# Altium integrated library Infineon RF & Wireless Control.IntLib: 329 symbols (part 5 of 11)
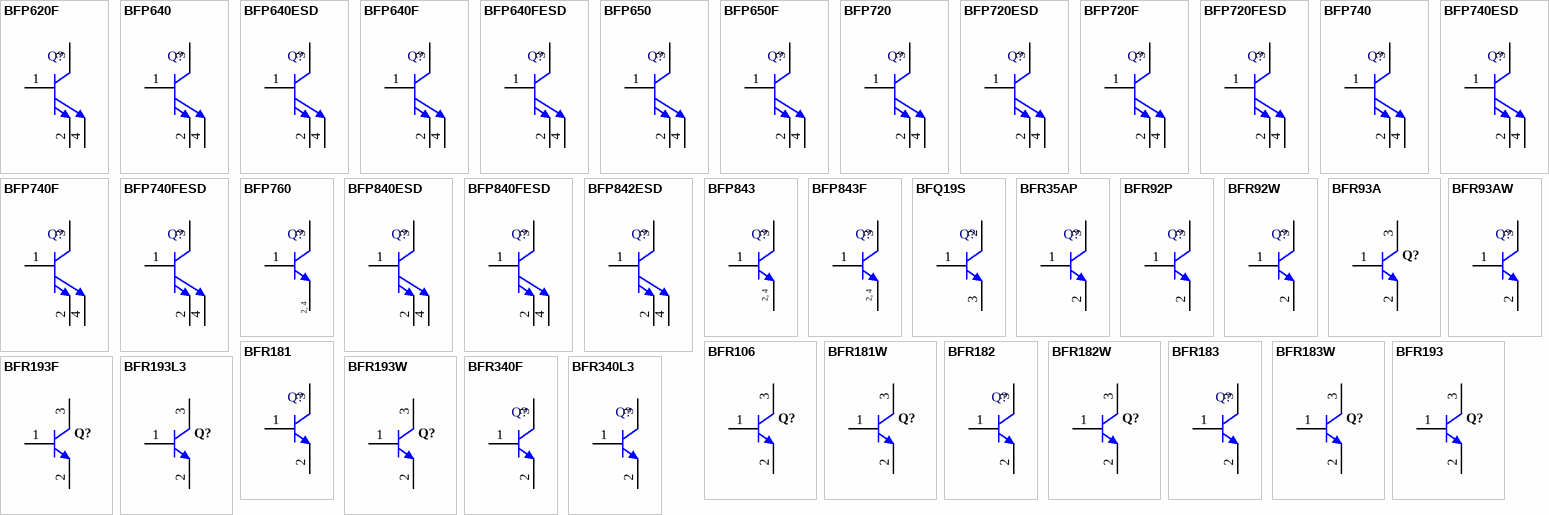
[diagram p13: symbols BFP620F to BFR340L3]

## BFP640F
designator Q?
NPN Silicon Germanium RF Transistor, 4 V VCEO, 50 mA IC, 23 dB Gmax, TSFP-4-1, Green; Manufacturer: Infineon; PartNumber: BFP640F; Gmax (typ): 23 dB; Green: yes; Group: Ultra low noise SiGe; IC (max): 50 mA; NFmin (typ): 0.65 dB; Ptot (max): 200mW; VCEO (max): 4 V; DatasheetVersion: ########; PackageReference: TSFP-4-1; PackageDescription: 4-Pin Thin Small Flat Package, 0.8 x 1.4 mm Body, 0.5 mm Pitch; Supplier 1: Mouser; Supplier Part Number 1: N/A; Halogen-free: yes; Mounting Technology: Surface Mount; ComponentLink1Description: Manufacturer URL; ComponentLink1URL: http://www.infineon.com/; ComponentLink2Description: Datasheet; ComponentLink2URL: http://www.infineon.com/dgdl/bfp640f.pdf?folderId=db3a30431400ef68011425b291f205c5&fileId=db3a30431400ef6801142744b3d90716&location=en.Products.RF.RF_Transistors_.Ultra_Low_Noise_SiGe_C_Transistors_for_use_up_to_12_GHz.DATASHEET.bfp640f.pdf; ComponentLink3Description: Package Specification; ComponentLink3URL: http://www.infineon.com/dgdl/TSFP-4-1%2C-2-Package_Overview.pdf?folderId=db3a30431936bc4b011953b7d203683d&fileId=db3a30431936bc4b011953c249663734
footprint INF-TSFP-4-1_V (SOP-Flat, Body 0.8x1.4 mm, Pitch 1 mm)
pins: 1 B, 2 E, 3 C, 4 E

## BFP640FESD
designator Q?
Robust High Performance Low Noise Bipolar RF Transistor, 4.1 V VCEO, 50 mA IC, 27 dB Gmax, TSFP-4-1, Green; Manufacturer: Infineon; PartNumber: BFP640FESD; Gmax (typ): 27 dB; Green: yes; Group: Robust ultra low noise SiGe; IC (max): 50 mA; NFmin (typ): 0.65 dB; Ptot (max): 200 mW; VCEO (max): 4.1 V; DatasheetVersion: Rev. 1.1; PackageReference: TSFP-4-1; PackageDescription: 4-Pin Thin Small Flat Package, 0.8 x 1.4 mm Body, 0.5 mm Pitch; Halogen-free: yes; Mounting Technology: Surface Mount; ComponentLink1Description: Manufacturer URL; ComponentLink1URL: http://www.infineon.com/; ComponentLink2Description: Datasheet; ComponentLink2URL: http://www.infineon.com/dgdl/bfp640fesd.pdf?folderId=db3a30431400ef68011425b291f205c5&fileId=db3a30432d9b3066012dbc8674194152&location=en.Products.RF.RF_Transistors_.Ultra_Low_Noise_SiGe_C_Transistors_for_use_up_to_12_GHz.DATASHEET.bfp640fesd.pdf; ComponentLink3Description: Package Specification; ComponentLink3URL: http://www.infineon.com/dgdl/TSFP-4-1%2C-2-Package_Overview.pdf?folderId=db3a30431936bc4b011953b7d203683d&fileId=db3a30431936bc4b011953c249663734
footprint INF-TSFP-4-1_V (SOP-Flat, Body 0.8x1.4 mm, Pitch 1 mm)
pins: 1 B, 2 E, 3 C, 4 E

## BFP650
designator Q?
High Linearity Low Noise SiGe:C NPN RF Transistor, 4 V VCEO, 150 mA IC, 21.5 dB Gmax, SOT343, Green; Manufacturer: Infineon; PartNumber: BFP650; Gmax (typ): 21.5 dB; Green: yes; Group: SiGe; IC (max): 150 mA; NFmin (typ): 0.8 dB; Ptot (max): 500.0 mW; VCEO (max): 4 V; DatasheetVersion: Rev. 1.0; PackageReference: SOT343; PackageDescription: 4-Pin Small Outline Transistor Package, 1.25 x 2 mm Body; Supplier 1: Mouser; Supplier Part Number 1: N/A; Supplier 2: Digi-Key; Supplier Part Number 2: BFP650-ND; Halogen-free: yes; Mounting Technology: Surface Mount; ComponentLink1Description: Manufacturer URL; ComponentLink1URL: http://www.infineon.com/; ComponentLink2Description: Datasheet; ComponentLink2URL: http://www.infineon.com/dgdl/bfp650.pdf?folderId=db3a30431400ef68011425b291f205c5&fileId=db3a30431400ef6801142743b0330715&location=en.Products.RF.RF_Transistors_.High_Linearity_Si-_and_SiGe_C-Transistors_for_use_up_to_6_GHz.DATASHEET.bfp650.pdf; ComponentLink3Description: Package Specification; ComponentLink3URL: http://www.infineon.com/dgdl/SOT343-Package_Overview.pdf?folderId=db3a30431936bc4b0119535155343cba&fileId=db3a30431936bc4b0119535a9f393cd3
footprint INF-SOT343_V (SOT343, 4-Leads, Body 2x1.25 mm)
pins: 1 B, 2 E, 3 C, 4 E

## BFP650F
designator Q?
NPN Silicon Germanium RF Transistor, 4 V VCEO, 150 mA IC, 21.5 dB Gmax, TSFP-4-1, Green; Manufacturer: Infineon; PartNumber: BFP650F; Gmax (typ): 21.5 dB; Green: yes; Group: SiGe; IC (max): 150 mA; NFmin (typ): 0.8 dB; Ptot (max): 500.0 mW; VCEO (max): 4 V; DatasheetVersion: Aug-2007; PackageReference: TSFP-4-1; PackageDescription: 4-Pin Thin Small Flat Package, 0.8 x 1.4 mm Body, 0.5 mm Pitch; Supplier 1: Mouser; Supplier Part Number 1: N/A; Halogen-free: yes; Mounting Technology: Surface Mount; ComponentLink1Description: Manufacturer URL; ComponentLink1URL: http://www.infineon.com/; ComponentLink2Description: Datasheet; ComponentLink2URL: http://www.infineon.com/dgdl/bfp650f.pdf?folderId=db3a30431400ef68011425b291f205c5&fileId=db3a30431441fb5d01149297e271101c&location=en.Products.RF.RF_Transistors_.High_Linearity_Si-_and_SiGe_C-Transistors_for_use_up_to_6_GHz.DATASHEET.bfp650f.pdf; ComponentLink3Description: Package Specification; ComponentLink3URL: http://www.infineon.com/dgdl/TSFP-4-1%2C-2-Package_Overview.pdf?folderId=db3a30431936bc4b011953b7d203683d&fileId=db3a30431936bc4b011953c249663734
footprint INF-TSFP-4-1_V (SOP-Flat, Body 0.8x1.4 mm, Pitch 1 mm)
pins: 1 B, 2 E, 3 C, 4 E

## BFP720
designator Q?
SiGe:C Heterojunction Wideband RF Bipolar Transistor, 4 V VCEO, 20 mA IC, 26 dB Gmax, SOT343, Green; Manufacturer: Infineon; PartNumber: BFP720; Gmax (typ): 26 dB; Green: yes; Group: Ultra low noise SiGe; IC (max): 20 mA; NFmin (typ): 0.5 dB; Ptot (max): 80mW; VCEO (max): 4 V; DatasheetVersion: Rev. 1.0; PackageReference: SOT343; PackageDescription: 4-Pin Small Outline Transistor Package, 1.25 x 2 mm Body; Halogen-free: yes; Mounting Technology: Surface Mount; ComponentLink1Description: Manufacturer URL; ComponentLink1URL: http://www.infineon.com/; ComponentLink2Description: Datasheet; ComponentLink2URL: http://www.infineon.com/dgdl/bfp720.pdf?folderId=db3a30431400ef68011425b291f205c5&fileId=db3a30431ddc9372011e2620465946bc&location=en.Products.RF.RF_Transistors_.Ultra_Low_Noise_SiGe_C_Transistors_for_use_up_to_12_GHz.DATASHEET.bfp720.pdf; ComponentLink3Description: Package Specification; ComponentLink3URL: http://www.infineon.com/dgdl/SOT343-Package_Overview.pdf?folderId=db3a30431936bc4b0119535155343cba&fileId=db3a30431936bc4b0119535a9f393cd3
footprint INF-SOT343_V (SOT343, 4-Leads, Body 2x1.25 mm)
pins: 1 B, 2 E, 3 C, 4 E

## BFP720ESD
designator Q?
Robust High Performance Low Noise Bipolar RF Transistor, 4.2 V VCEO, 25 mA IC, 27 dB Gmax, SOT343, Green; Manufacturer: Infineon; PartNumber: BFP720ESD; Gmax (typ): 27 dB; Green: yes; Group: Robust ultra low noise SiGe; IC (max): 25 mA; NFmin (typ): 0.6 dB; Ptot (max): 100 mW; VCEO (max): 4.2 V; DatasheetVersion: Rev. 1.0; PackageReference: SOT343; PackageDescription: 4-Pin Small Outline Transistor Package, 1.25 x 2 mm Body; Halogen-free: yes; Mounting Technology: Surface Mount; ComponentLink1Description: Manufacturer URL; ComponentLink1URL: http://www.infineon.com/; ComponentLink2Description: Datasheet; ComponentLink2URL: http://www.infineon.com/dgdl/bfp720esd.pdf?folderId=db3a30431f848401011fcbf2ab4c04c4&fileId=db3a30432968c552012991dcedf054a7&location=en.Products.RF.RF_Transistors_.Ultra_Low_Noise_SiGe_C_Transistors_for_use_up_to_12_GHz.DATASHEET.bfp720esd.pdf; ComponentLink3Description: Package Specification; ComponentLink3URL: http://www.infineon.com/dgdl/SOT343-Package_Overview.pdf?folderId=db3a30431936bc4b0119535155343cba&fileId=db3a30431936bc4b0119535a9f393cd3
footprint INF-SOT343_V (SOT343, 4-Leads, Body 2x1.25 mm)
pins: 1 B, 2 E, 3 C, 4 E

## BFP720F
designator Q?
SiGe:C Heterojunction Wideband RF Bipolar Transistor, 4 V VCEO, 20 mA IC, 26 dB Gmax, TSFP-4-1, Green; Manufacturer: Infineon; PartNumber: BFP720F; Gmax (typ): 26 dB; Green: yes; Group: Ultra low noise SiGe; IC (max): 20 mA; NFmin (typ): 0.5 dB; Ptot (max): 80mW; VCEO (max): 4 V; DatasheetVersion: Rev. 1.0; PackageReference: TSFP-4-1; PackageDescription: 4-Pin Thin Small Flat Package, 0.8 x 1.4 mm Body, 0.5 mm Pitch; Halogen-free: yes; Mounting Technology: Surface Mount; ComponentLink1Description: Manufacturer URL; ComponentLink1URL: http://www.infineon.com/; ComponentLink2Description: Datasheet; ComponentLink2URL: http://www.infineon.com/dgdl/bfp720f.pdf?folderId=db3a30431400ef68011425b291f205c5&fileId=db3a30431ddc9372011e2673bdbf4727&location=en.Products.RF.RF_Transistors_.Ultra_Low_Noise_SiGe_C_Transistors_for_use_up_to_12_GHz.DATASHEET.bfp720f.pdf; ComponentLink3Description: Package Specification; ComponentLink3URL: http://www.infineon.com/dgdl/TSFP-4-1%2C-2-Package_Overview.pdf?folderId=db3a30431936bc4b011953b7d203683d&fileId=db3a30431936bc4b011953c249663734
footprint INF-TSFP-4-1_V (SOP-Flat, Body 0.8x1.4 mm, Pitch 1 mm)
pins: 1 B, 2 E, 3 C, 4 E

## BFP720FESD
designator Q?
Robust High Performance Low Noise Bipolar RF Transistor, 4.2 V VCEO, 25 mA IC, 27 dB Gmax, TSFP-4-1, Green; Manufacturer: Infineon; PartNumber: BFP720FESD; Gmax (typ): 27 dB; Green: yes; Group: Robust ultra low noise SiGe; IC (max): 25 mA; NFmin (typ): 0.6 dB; Ptot (max): 100 mW; VCEO (max): 4.2 V; DatasheetVersion: Rev. 1.1; PackageReference: TSFP-4-1; PackageDescription: 4-Pin Thin Small Flat Package, 0.8 x 1.4 mm Body, 0.5 mm Pitch; Halogen-free: yes; Mounting Technology: Surface Mount; ComponentLink1Description: Manufacturer URL; ComponentLink1URL: http://www.infineon.com/; ComponentLink2Description: Datasheet; ComponentLink2URL: http://www.infineon.com/dgdl/bfp720fesd.pdf?folderId=db3a30431400ef68011425b291f205c5&fileId=db3a304329a0f6ee0129d0399cc505a0&location=en.Products.RF.RF_Transistors_.Ultra_Low_Noise_SiGe_C_Transistors_for_use_up_to_12_GHz.DATASHEET.bfp720fesd.pdf; ComponentLink3Description: Package Specification; ComponentLink3URL: http://www.infineon.com/dgdl/TSFP-4-1%2C-2-Package_Overview.pdf?folderId=db3a30431936bc4b011953b7d203683d&fileId=db3a30431936bc4b011953c249663734
footprint INF-TSFP-4-1_V (SOP-Flat, Body 0.8x1.4 mm, Pitch 1 mm)
pins: 1 B, 2 E, 3 C, 4 E

## BFP740
designator Q?
NPN Silicon Germanium RF Transistor, 4 V VCEO, 45 mA IC, 27 dB Gmax, SOT343, Green; Manufacturer: Infineon; PartNumber: BFP740; Gmax (typ): 27 dB; Green: yes; Group: Ultra low noise SiGe; IC (max): 45 mA; NFmin (typ): 0.5 dB; Ptot (max): 160mW; VCEO (max): 4 V; DatasheetVersion: Dec-2009; PackageReference: SOT343; PackageDescription: 4-Pin Small Outline Transistor Package, 1.25 x 2 mm Body; Halogen-free: yes; Mounting Technology: Surface Mount; ComponentLink1Description: Manufacturer URL; ComponentLink1URL: http://www.infineon.com/; ComponentLink2Description: Datasheet; ComponentLink2URL: http://www.infineon.com/dgdl/bfp740.pdf?folderId=db3a30431400ef68011425b291f205c5&fileId=db3a30431400ef6801142740c849070c&location=en.Products.RF.RF_Transistors_.Ultra_Low_Noise_SiGe_C_Transistors_for_use_up_to_12_GHz.DATASHEET.bfp740.pdf; ComponentLink3Description: Package Specification; ComponentLink3URL: http://www.infineon.com/dgdl/SOT343-Package_Overview.pdf?folderId=db3a30431936bc4b0119535155343cba&fileId=db3a30431936bc4b0119535a9f393cd3
footprint INF-SOT343_V (SOT343, 4-Leads, Body 2x1.25 mm)
pins: 1 B, 2 E, 3 C, 4 E

## BFP740ESD
designator Q?
Robust High Performance Low Noise Bipolar RF Transistor, 4.2 V VCEO, 35 mA IC, 27 dB Gmax, SOT343, Green; Manufacturer: Infineon; PartNumber: BFP740ESD; Gmax (typ): 27 dB; Green: yes; Group: Robust ultra low noise SiGe; IC (max): 35 mA; NFmin (typ): 0.6 dB; Ptot (max): 160.0 mW; VCEO (max): 4.2 V; DatasheetVersion: Rev. 1.0; PackageReference: SOT343; PackageDescription: 4-Pin Small Outline Transistor Package, 1.25 x 2 mm Body; Halogen-free: yes; Mounting Technology: Surface Mount; ComponentLink1Description: Manufacturer URL; ComponentLink1URL: http://www.infineon.com/; ComponentLink2Description: Datasheet; ComponentLink2URL: http://www.infineon.com/dgdl/bfp740esd.pdf?folderId=db3a30431f848401011fcbf2ab4c04c4&fileId=db3a30432968c552012991dbc14c54a2&location=en.Products.RF.RF_Transistors_.Ultra_Low_Noise_SiGe_C_Transistors_for_use_up_to_12_GHz.DATASHEET.bfp740esd.pdf; ComponentLink3Description: Package Specification; ComponentLink3URL: http://www.infineon.com/dgdl/SOT343-Package_Overview.pdf?folderId=db3a30431936bc4b0119535155343cba&fileId=db3a30431936bc4b0119535a9f393cd3
footprint INF-SOT343_V (SOT343, 4-Leads, Body 2x1.25 mm)
pins: 1 B, 2 E, 3 C, 4 E

## BFP740F
designator Q?
NPN Silicon Germanium RF Transistor, 4 V VCEO, 45 mA IC, 27.5 dB Gmax, TSFP-4-1, Green; Manufacturer: Infineon; PartNumber: BFP740F; Gmax (typ): 27.5 dB; Green: yes; Group: Ultra low noise SiGe; IC (max): 45 mA; NFmin (typ): 0.5 dB; Ptot (max): 160mW; VCEO (max): 4 V; DatasheetVersion: Apr-2007; PackageReference: TSFP-4-1; PackageDescription: 4-Pin Thin Small Flat Package, 0.8 x 1.4 mm Body, 0.5 mm Pitch; Supplier 1: Mouser; Supplier Part Number 1: N/A; Halogen-free: yes; Mounting Technology: Surface Mount; ComponentLink1Description: Manufacturer URL; ComponentLink1URL: http://www.infineon.com/; ComponentLink2Description: Datasheet; ComponentLink2URL: http://www.infineon.com/dgdl/bfp740f.pdf?folderId=db3a30431400ef68011425b291f205c5&fileId=db3a30431400ef680114273fad60070b&location=en.Products.RF.RF_Transistors_.Ultra_Low_Noise_SiGe_C_Transistors_for_use_up_to_12_GHz.DATASHEET.bfp740f.pdf; ComponentLink3Description: Package Specification; ComponentLink3URL: http://www.infineon.com/dgdl/TSFP-4-1%2C-2-Package_Overview.pdf?folderId=db3a30431936bc4b011953b7d203683d&fileId=db3a30431936bc4b011953c249663734
footprint INF-TSFP-4-1_V (SOP-Flat, Body 0.8x1.4 mm, Pitch 1 mm)
pins: 1 B, 2 E, 3 C, 4 E

## BFP740FESD
designator Q?
Robust High Performance Low Noise Bipolar RF Transistor, 4.2 V VCEO, 35 mA IC, 27 dB Gmax, TSFP-4-1, Green; Manufacturer: Infineon; PartNumber: BFP740FESD; Gmax (typ): 27 dB; Green: yes; Group: Robust ultra low noise SiGe; IC (max): 35 mA; NFmin (typ): 0.6 dB; Ptot (max): 160.0 mW; VCEO (max): 4.2 V; DatasheetVersion: Rev. 1.1; PackageReference: TSFP-4-1; PackageDescription: 4-Pin Thin Small Flat Package, 0.8 x 1.4 mm Body, 0.5 mm Pitch; Halogen-free: yes; Mounting Technology: Surface Mount; ComponentLink1Description: Manufacturer URL; ComponentLink1URL: http://www.infineon.com/; ComponentLink2Description: Datasheet; ComponentLink2URL: http://www.infineon.com/dgdl/bfp740fesd.pdf?folderId=db3a30431400ef68011425b1354605c1&fileId=db3a30432d9b3066012dbc7089e14144&location=en.Products.RF.RF_Transistors_.Ultra_Low_Noise_SiGe_C_Transistors_for_use_up_to_12_GHz.DATASHEET.bfp740fesd.pdf; ComponentLink3Description: Package Specification; ComponentLink3URL: http://www.infineon.com/dgdl/TSFP-4-1%2C-2-Package_Overview.pdf?folderId=db3a30431936bc4b011953b7d203683d&fileId=db3a30431936bc4b011953c249663734
footprint INF-TSFP-4-1_V (SOP-Flat, Body 0.8x1.4 mm, Pitch 1 mm)
pins: 1 B, 2 E, 3 C, 4 E

## BFP760
designator Q?
Low Noise Silicon Germanium Bipolar RF Transistor, 4 V, 70 mA IC, SOT343 (SC-82), Reel, Green; Manufacturer: Infineon; PartNumber: BFP760; fT (typ): 45 GHz; Gmax (typ): 25 dB; Green: TRUE; IC(max): 70 mA; NFmin (typ): 0.5 dB; OIP3: 31.5 dBm; OP1dB: 14.5 dBm; Ptot (max): 240 mW; VCEO (max): 4 V; DatasheetVersion: Rev. 1.0; PackageVersion: Apr-08; PackageReference: SOT343 (SC-82); PackageDescription: 4-Pin Small Outline Transistor Package, 2 x 1.25 mm Body, 1.3 mm Pitch; Halogen-free: TRUE; Packing: Reel; Mounting Technology: Surface Mount; ComponentLink1Description: Manufacturer URL; ComponentLink1URL: http://www.infineon.com/; ComponentLink2Description: Datasheet; ComponentLink2URL: http://www.infineon.com/dgdl/Infineon+SiGe+LNA+BFP760+Rev_1.pdf?folderId=db3a30431f848401011fcbf2ab4c04c4&fileId=db3a30433c1a8752013c3905d2ef4a3a; ComponentLink3Description: Package Specification; ComponentLink3URL: http://www.infineon.com/dgdl/SOT343-Package_Overview.pdf?folderId=db3a30431936bc4b0119535155343cba&fileId=db3a30431936bc4b0119535a9f393cd3
footprint INF-SOT343 (SC-82)_N (SOT343, 4-Leads, Body 2x1.25mm, Pitch 1.3mm, IPC Medium Density)
footprint INF-SOT343 (SC-82)_L (SOT343, 4-Leads, Body 2x1.25mm, Pitch 1.3mm, IPC High Density)
footprint INF-SOT343 (SC-82)_M (SOT343, 4-Leads, Body 2x1.25mm, Pitch 1.3mm, IPC Low Density)
pins: 1 B, 2 E, 3 C, 4 E
text: 2, 4

## BFP840ESD
designator Q?
Robust Low Noise Silicon Germanium Bipolar RF Transistor, 2.25 V VCEO, 35 mA IC, 33.5 dB Gmax, SOT343, Green; Manufacturer: Infineon; PartNumber: BFP840ESD; Gmax (typ): 33.5 dB; Green: yes; Group: Robust ultra low noise SiGe; IC (max): 35 mA; NFmin (typ): 0.6 dB; Ptot (max): 75.0 mW; VCEO (max): 2.25 V; DatasheetVersion: Rev. 1.1; PackageReference: SOT343; PackageDescription: 4-Pin Small Outline Transistor Package, 1.25 x 2 mm Body; Halogen-free: yes; Mounting Technology: Surface Mount; ComponentLink1Description: Manufacturer URL; ComponentLink1URL: http://www.infineon.com/; ComponentLink2Description: Datasheet; ComponentLink2URL: http://www.infineon.com/dgdl/Infineon_Robust_WiFi_SiGe_LNA_BFP840ESD_Rev1_1.pdf?folderId=db3a30431f848401011fcbf2ab4c04c4&fileId=db3a304336ca04c90136e88a4d5f35b7&location=en.Products.RF.RF_Transistors_.Ultra_Low_Noise_SiGe_C_Transistors_for_use_up_to_12_GHz.DATASHEET.Infineon_Robust_WiFi_SiGe_LNA_BFP840ESD_Rev1_1.pdf; ComponentLink3Description: Package Specification; ComponentLink3URL: http://www.infineon.com/dgdl/SOT343-Package_Overview.pdf?folderId=db3a30431936bc4b0119535155343cba&fileId=db3a30431936bc4b0119535a9f393cd3
footprint INF-SOT343_V (SOT343, 4-Leads, Body 2x1.25 mm)
pins: 1 B, 2 E, 3 C, 4 E

## BFP840FESD
designator Q?
Robust Low Noise Silicon Germanium Bipolar RF Transistor, 2.25 V VCEO, 35 mA IC, 35 dB Gmax, TSFP-4-1, Green; Manufacturer: Infineon; PartNumber: BFP840FESD; Gmax (typ): 35 dB; Green: yes; Group: Robust ultra low noise SiGe; IC (max): 35 mA; NFmin (typ): 0.55 dB; Ptot (max): 75mW; VCEO (max): 2.25 V; DatasheetVersion: Rev. 1.1; PackageReference: TSFP-4-1; PackageDescription: 4-Pin Thin Small Flat Package, 0.8 x 1.4 mm Body, 0.5 mm Pitch; Halogen-free: yes; Mounting Technology: Surface Mount; ComponentLink1Description: Manufacturer URL; ComponentLink1URL: http://www.infineon.com/; ComponentLink2Description: Datasheet; ComponentLink2URL: http://www.infineon.com/dgdl/Infineon_Robust_WiFi_SiGe_LNA_BFP840FESD_Rev1_1.pdf?folderId=db3a30431f848401011fcbf2ab4c04c4&fileId=db3a304336ca04c90136e88f755435bf&location=en.Products.RF.RF_Transistors_.Ultra_Low_Noise_SiGe_C_Transistors_for_use_up_to_12_GHz.DATASHEET.Infineon_Robust_WiFi_SiGe_LNA_BFP840FESD_Rev1_1.pdf; ComponentLink3Description: Package Specification; ComponentLink3URL: http://www.infineon.com/dgdl/TSFP-4-1%2C-2-Package_Overview.pdf?folderId=db3a30431936bc4b011953b7d203683d&fileId=db3a30431936bc4b011953c249663734
footprint INF-TSFP-4-1_V (SOP-Flat, Body 0.8x1.4 mm, Pitch 1 mm)
pins: 1 B, 2 E, 3 C, 4 E

## BFP842ESD
designator Q?
Robust Low Noise Silicon Germanium Bipolar RF Transistor, 3.25 V VCEO, 40 mA IC, 33 dB Gmax, SOT343, Green; Manufacturer: Infineon; PartNumber: BFP842ESD; Gmax (typ): 33 dB; Green: yes; Group: Robust ultra low noise SiGe; IC (max): 40 mA; NFmin (typ): 0.4 dB; Ptot (max): 120.0 mW; VCEO (max): 3.25 V; DatasheetVersion: Rev. 1.0; PackageReference: SOT343; PackageDescription: 4-Pin Small Outline Transistor Package, 1.25 x 2 mm Body; Halogen-free: yes; Mounting Technology: Surface Mount; ComponentLink1Description: Manufacturer URL; ComponentLink1URL: http://www.infineon.com/; ComponentLink2Description: Datasheet; ComponentLink2URL: http://www.infineon.com/dgdl/Infineon_Robust_WiFi_SiGe_BFP842ESD_Rev1_0.pdf?folderId=db3a30431f848401011fcbf2ab4c04c4&fileId=db3a3043394427e401394df03a3a27c9&location=en.Products.RF.RF_Transistors_.Ultra_Low_Noise_SiGe_C_Transistors_for_use_up_to_12_GHz.DATASHEET.Infineon_Robust_WiFi_SiGe_BFP842ESD_Rev1_0.pdf; ComponentLink3Description: Package Specification; ComponentLink3URL: http://www.infineon.com/dgdl/SOT343-Package_Overview.pdf?folderId=db3a30431936bc4b0119535155343cba&fileId=db3a30431936bc4b0119535a9f393cd3
footprint INF-SOT343_V (SOT343, 4-Leads, Body 2x1.25 mm)
pins: 1 B, 2 E, 3 C, 4 E

## BFP843
designator Q?
Robust Low Noise Broadband Pre-Matched Bipolar RF Transistor, 55 mA IC, 2.25 V VCEO, SOT343, Reel, Green; Manufacturer: Infineon; PartNumber: BFP843; Gmax (typ): 22.5 dB; Green: TRUE; IC(max): 55 mA; NFmin (typ): 0.95 dB; OIP3: 24 dBm; VCEO (max): 2.25 V; DatasheetVersion: Rev. 1.0; PackageVersion: Apr-08; PackageReference: SOT343 (SC-82); PackageDescription: 4-Pin Small Outline Transistor Package, 2 x 1.25 mm Body, 1.3 mm Pitch; Halogen-free: TRUE; Packing: Reel; Mounting Technology: Surface Mount; ComponentLink1Description: Manufacturer URL; ComponentLink1URL: http://www.infineon.com/; ComponentLink2Description: Datasheet; ComponentLink2URL: http://www.infineon.com/dgdl/Infineon_Robust_SiGe_WiFi_WLAN_Prematched_Broadband_LNA_BFP843+Rev.+1.0.pdf?folderId=db3a30431f848401011fcbf2ab4c04c4&fileId=db3a30433f9a93b7013f9f380d2c1f78; ComponentLink3Description: Package Specification; ComponentLink3URL: http://www.infineon.com/dgdl/SOT343-Package_Overview.pdf?folderId=db3a30431936bc4b0119535155343cba&fileId=db3a30431936bc4b0119535a9f393cd3
footprint INF-SOT343 (SC-82)_N (SOT343, 4-Leads, Body 2x1.25mm, Pitch 1.3mm, IPC Medium Density)
footprint INF-SOT343 (SC-82)_L (SOT343, 4-Leads, Body 2x1.25mm, Pitch 1.3mm, IPC High Density)
footprint INF-SOT343 (SC-82)_M (SOT343, 4-Leads, Body 2x1.25mm, Pitch 1.3mm, IPC Low Density)
pins: 1 B, 2 E, 3 C, 4 E
text: 2, 4

## BFP843F
designator Q?
Robust Low Noise Broadband Pre-Matched Bipolar RF Transistor, 55 mA IC, 2.25 V VCEO, TSFP-4, Reel, Green; Manufacturer: Infineon; PartNumber: BFP843F; Gmax (typ): 23.5 dB; Green: TRUE; IC(max): 55 mA; NFmin (typ): 0.9 dB; OIP3: 23.5 dBm; VCEO (max): 2.25 V; DatasheetVersion: Rev. 1.0; PackageVersion: Sep-12; PackageReference: TSFP-4-1; PackageDescription: 4-Pin Thin Small Flat Package, 0.8 x 1.4 mm Body, 0.5 mm Pitch; Halogen-free: TRUE; Packing: Reel; Mounting Technology: Surface Mount; ComponentLink1Description: Manufacturer URL; ComponentLink1URL: http://www.infineon.com/; ComponentLink2Description: Datasheet; ComponentLink2URL: http://www.infineon.com/dgdl/Infineon_Robust_SiGe_WiFi_WLAN_Prematched_Broadband_LNA_BFP843F+Rev.+1.0.pdf?folderId=db3a30431f848401011fcbf2ab4c04c4&fileId=db3a30433f9a93b7013f9f3c160a1f87; ComponentLink3Description: Package Specification; ComponentLink3URL: http://www.infineon.com/dgdl/TSFP-4-1%2C-2-Package_Overview.pdf?folderId=db3a30431936bc4b011953b7d203683d&fileId=db3a30431936bc4b011953c249663734
footprint INF-TSFP-4-1_V (SOP-Flat, 4 Leads, Body 0.8x1.4 mm, Pitch 1 mm)
pins: 1 B, 2 E, 3 C, 4 E
text: 2, 4

## BFQ19S
designator Q?
NPN Silicon RF Transistor, 15 V VCEO, 210 mA IC, 11.5 dB Gmax, SOT89, Green; Manufacturer: Infineon; PartNumber: BFQ19S; Gmax (typ): 11.5 dB; Green: yes; Group: For low frequencies, e.g. VHF/UHF; IC (max): 210 mA; NFmin (typ): 1.8 dB; Ptot (max): 1.0 W; VCEO (max): 15 V; DatasheetVersion: Jul-2012; PackageReference: SOT89; PackageDescription: 3-Pin Small Outline Transistor Package, 2.5 x 4.5 mm Body; Supplier 1: Mouser; Supplier Part Number 1: N/A; Mounting Technology: Surface Mount; ComponentLink1Description: Manufacturer URL; ComponentLink1URL: http://www.infineon.com/; ComponentLink2Description: Datasheet; ComponentLink2URL: http://www.infineon.com/dgdl/Infineon_LNA_BFQ19S.pdf?folderId=db3a30431400ef68011425b1354605c1&fileId=db3a30431400ef6801142683f6870630&location=en.Products.RF.RF_Transistors_.High_Linearity_Si-_and_SiGe_C-Transistors_for_use_up_to_6_GHz.DATASHEET.Infineon_LNA_BFQ19S.pdf; ComponentLink3Description: Package Specification; ComponentLink3URL: http://www.infineon.com/dgdl/SOT89-Package_Overview.pdf?folderId=db3a30431936bc4b01195371b8363cff&fileId=db3a30431936bc4b0119537ed61d3d22
footprint INF-SOT89_N (SOT89, 3-Leads, Body 4.5x2.5 mm, Pitch 1.5 mm, IPC Medium Density)
footprint INF-SOT89_L (SOT89, 3-Leads, Body 4.5x2.5 mm, Pitch 1.5 mm, IPC High Density)
footprint INF-SOT89_M (SOT89, 3-Leads, Body 4.5x2.5 mm, Pitch 1.5 mm, IPC Low Density)
pins: 1 B, 2 C, 3 E

## BFR35AP
designator Q?
NPN Silicon RF Transistor, 15 V VCEO, 45 mA IC, 16 dB Gmax, SOT23, Green; Manufacturer: Infineon; PartNumber: BFR35AP; Gmax (typ): 16 dB; Green: yes; Group: For low frequencies e.g. VHF/UHF; IC (max): 45 mA; NFmin (typ): 1.4 dB; Ptot (max): 280 mW; VCEO (max): 15 V; DatasheetVersion: Aug-2012; PackageReference: SOT23; PackageDescription: 3-Pin Small Outline Transistor Package, 1.3 x 2.9 mm Body, 0.95 mm Pitch; Supplier 1: Mouser; Supplier Part Number 1: N/A; Mounting Technology: Surface Mount; ComponentLink1Description: Manufacturer URL; ComponentLink1URL: http://www.infineon.com/; ComponentLink2Description: Datasheet; ComponentLink2URL: http://www.infineon.com/dgdl/bfr35ap.pdf?folderId=db3a30431400ef68011425b1354605c1&fileId=db3a30431400ef68011426b8f826067e&location=en.Products.RF.RF_Transistors_.Low_Noise_Si_Transistors_up_to_2_5_GHz.DATASHEET.bfr35ap.pdf; ComponentLink3Description: Package Specification; ComponentLink3URL: http://www.infineon.com/dgdl/SOT23-Package_Overview.pdf?folderId=db3a30431936bc4b0119532290053c66&fileId=db3a30431936bc4b0119533468123c85
footprint INF-SOT23_N (SOT23, 3-Leads, Body 2.9x1.3 mm, Pitch 0.95 mm, IPC Medium Density)
footprint INF-SOT23_L (SOT23, 3-Leads, Body 2.9x1.3 mm, Pitch 0.95 mm, IPC High Density)
footprint INF-SOT23_M (SOT23, 3-Leads, Body 2.9x1.3 mm, Pitch 0.95 mm, IPC Low Density)
pins: 1 B, 2 E, 3 C

## BFR92P
designator Q?
NPN Silicon RF Transistor, 15 V VCEO, 45 mA IC, 16 dB Gmax, SOT23, Green; Manufacturer: Infineon; PartNumber: BFR92P; Gmax (typ): 16 dB; Green: yes; Group: For low frequencies e.g. VHF/UHF; IC (max): 45 mA; NFmin (typ): 1.4 dB; Ptot (max): 280 mW; VCEO (max): 15 V; DatasheetVersion: Aug-2012; PackageReference: SOT23; PackageDescription: 3-Pin Small Outline Transistor Package, 1.3 x 2.9 mm Body, 0.95 mm Pitch; Supplier 1: Mouser; Supplier Part Number 1: N/A; Supplier 2: Newark; Supplier Part Number 2: 24M0742; Supplier 3: Farnell; Supplier Part Number 3: 1056520RL; Supplier 4: Farnell; Supplier Part Number 4: 1056520; Mounting Technology: Surface Mount; ComponentLink1Description: Manufacturer URL; ComponentLink1URL: http://www.infineon.com/; ComponentLink2Description: Datasheet; ComponentLink2URL: http://www.infineon.com/dgdl/bfr92p.pdf?folderId=db3a30431400ef68011425b1354605c1&fileId=db3a30431400ef68011426fd178506a6&location=en.Products.RF.RF_Transistors_.Low_Noise_Si_Transistors_up_to_2_5_GHz.DATASHEET.bfr92p.pdf; ComponentLink3Description: Package Specification; ComponentLink3URL: http://www.infineon.com/dgdl/SOT23-Package_Overview.pdf?folderId=db3a30431936bc4b0119532290053c66&fileId=db3a30431936bc4b0119533468123c85
footprint INF-SOT23_N (SOT23, 3-Leads, Body 2.9x1.3 mm, Pitch 0.95 mm, IPC Medium Density)
footprint INF-SOT23_L (SOT23, 3-Leads, Body 2.9x1.3 mm, Pitch 0.95 mm, IPC High Density)
footprint INF-SOT23_M (SOT23, 3-Leads, Body 2.9x1.3 mm, Pitch 0.95 mm, IPC Low Density)
pins: 1 B, 2 E, 3 C

## BFR92W
designator Q?
NPN Silicon RF Transistor, 15 V VCEO, 45 mA IC, 17 dB Gmax, SOT323, Green; Manufacturer: Infineon; PartNumber: BFR92W; Gmax (typ): 17 dB; Green: yes; Group: For low frequencies e.g. VHF/UHF; IC (max): 45 mA; NFmin (typ): 1.4 dB; Ptot (max): 280 mW; VCEO (max): 15 V; DatasheetVersion: Jul-2012; PackageReference: SOT323; PackageDescription: 3-Pin Small Outline Transistor Package, 1.25 x 2 mm Body, 0.65 mm Pitch; Supplier 1: Mouser; Supplier Part Number 1: N/A; Halogen-free: yes; Mounting Technology: Surface Mount; ComponentLink1Description: Manufacturer URL; ComponentLink1URL: http://www.infineon.com/; ComponentLink2Description: Datasheet; ComponentLink2URL: http://www.infineon.com/dgdl/Infineon_LNA_BFR92W.pdf?folderId=db3a30431400ef68011425b1354605c1&fileId=db3a30431400ef6801142700b90a06ad&location=en.Products.RF.RF_Transistors_.Low_Noise_Si_Transistors_up_to_2_5_GHz.DATASHEET.Infineon_LNA_BFR92W.pdf; ComponentLink3Description: Package Specification; ComponentLink3URL: http://www.infineon.com/dgdl/SOT323-Package_Overview.pdf?folderId=db3a30431936bc4b0119533e1dcb3c92&fileId=db3a30431936bc4b011953495f283cb1
footprint INF-SOT323_N (SOT23, 3-Leads, Body 2x1.25 mm, Pitch 0.65 mm, IPC Medium Density)
footprint INF-SOT323_L (SOT23, 3-Leads, Body 2x1.25 mm, Pitch 0.65 mm, IPC High Density)
footprint INF-SOT323_M (SOT23, 3-Leads, Body 2x1.25 mm, Pitch 0.65 mm, IPC Low Density)
pins: 1 B, 2 E, 3 C

## BFR93A
designator Q?
NPN Silicon RF Transistor, 12 V VCEO, 90 mA IC, 14.5 dB Gmax, SOT23, Green; Manufacturer: Infineon; PartNumber: BFR93A; Gmax (typ): 14.5 dB; Green: yes; Group: For low frequencies, e.g. VHF/UHF; IC (max): 90 mA; NFmin (typ): 1.5 dB; Ptot (max): 300.0mW; VCEO (max): 12 V; DatasheetVersion: Aug-2012; PackageReference: SOT23; PackageDescription: 3-Pin Small Outline Transistor Package, 1.3 x 2.9 mm Body, 0.95 mm Pitch; Mounting Technology: Surface Mount; ComponentLink1Description: Manufacturer URL; ComponentLink1URL: http://www.infineon.com/; ComponentLink2Description: Datasheet; ComponentLink2URL: http://www.infineon.com/dgdl/bfr93a.pdf?folderId=db3a30431400ef68011425b1354605c1&fileId=db3a30431400ef6801142702189806ae&location=en.Products.RF.RF_Transistors_.High_Linearity_Si-_and_SiGe_C-Transistors_for_use_up_to_6_GHz.DATASHEET.bfr93a.pdf; ComponentLink3Description: Package Specification; ComponentLink3URL: http://www.infineon.com/dgdl/SOT23-Package_Overview.pdf?folderId=db3a30431936bc4b0119532290053c66&fileId=db3a30431936bc4b0119533468123c85
footprint INF-SOT23_N (SOT23, 3-Leads, Body 2.9x1.3 mm, Pitch 0.95 mm, IPC Medium Density)
footprint INF-SOT23_L (SOT23, 3-Leads, Body 2.9x1.3 mm, Pitch 0.95 mm, IPC High Density)
footprint INF-SOT23_M (SOT23, 3-Leads, Body 2.9x1.3 mm, Pitch 0.95 mm, IPC Low Density)
pins: 1 B, 2 E, 3 C

## BFR93AW
designator Q?
NPN Silicon RF Transistor, 12 V VCEO, 90 mA IC, 15.5 dB Gmax, SOT323, Green; Manufacturer: Infineon; PartNumber: BFR93AW; Gmax (typ): 15.5 dB; Green: yes; Group: For low frequencies, e.g. VHF/UHF; IC (max): 90 mA; NFmin (typ): 1.5 dB; Ptot (max): 300mW; VCEO (max): 12 V; DatasheetVersion: Jul-2012; PackageReference: SOT323; PackageDescription: 3-Pin Small Outline Transistor Package, 1.25 x 2 mm Body, 0.65 mm Pitch; Halogen-free: yes; Mounting Technology: Surface Mount; ComponentLink1Description: Manufacturer URL; ComponentLink1URL: http://www.infineon.com/; ComponentLink2Description: Datasheet; ComponentLink2URL: http://www.infineon.com/dgdl/Infineon_LNA_BFR93AW.pdf?folderId=db3a30431400ef68011425b1354605c1&fileId=db3a30431441fb5d0114acaaec8c148f&location=en.Products.RF.RF_Transistors_.High_Linearity_Si-_and_SiGe_C-Transistors_for_use_up_to_6_GHz.DATASHEET.Infineon_LNA_BFR93AW.pdf; ComponentLink3Description: Package Specification; ComponentLink3URL: http://www.infineon.com/dgdl/SOT323-Package_Overview.pdf?folderId=db3a30431936bc4b0119533e1dcb3c92&fileId=db3a30431936bc4b011953495f283cb1
footprint INF-SOT323_N (SOT23, 3-Leads, Body 2x1.25 mm, Pitch 0.65 mm, IPC Medium Density)
footprint INF-SOT323_L (SOT23, 3-Leads, Body 2x1.25 mm, Pitch 0.65 mm, IPC High Density)
footprint INF-SOT323_M (SOT23, 3-Leads, Body 2x1.25 mm, Pitch 0.65 mm, IPC Low Density)
pins: 1 B, 2 E, 3 C

## BFR106
designator Q?
NPN Silicon RF Transistor, 15 V VCEO, 210 mA IC, 13 dB Gmax, SOT23, Green; Manufacturer: Infineon; PartNumber: BFR106; Gmax (typ): 13 dB; Green: yes; Group: For low frequencies, e.g. VHF/UHF; IC (max): 210 mA; NFmin (typ): 1.8 dB; Ptot (max): 700.mW; VCEO (max): 15 V; DatasheetVersion: Jul-2012; PackageReference: SOT23; PackageDescription: 3-Pin Small Outline Transistor Package, 1.3 x 2.9 mm Body, 0.95 mm Pitch; Mounting Technology: Surface Mount; ComponentLink1Description: Manufacturer URL; ComponentLink1URL: http://www.infineon.com/; ComponentLink2Description: Datasheet; ComponentLink2URL: http://www.infineon.com/dgdl/Infineon_LNA_BFR106.pdf?folderId=db3a30431400ef68011425b1354605c1&fileId=db3a30431400ef6801142686f2030637&location=en.Products.RF.RF_Transistors_.High_Linearity_Si-_and_SiGe_C-Transistors_for_use_up_to_6_GHz.DATASHEET.Infineon_LNA_BFR106.pdf; ComponentLink3Description: Package Specification; ComponentLink3URL: http://www.infineon.com/dgdl/SOT23-Package_Overview.pdf?folderId=db3a30431936bc4b0119532290053c66&fileId=db3a30431936bc4b0119533468123c85
footprint INF-SOT23_N (SOT23, 3-Leads, Body 2.9x1.3 mm, Pitch 0.95 mm, IPC Medium Density)
footprint INF-SOT23_L (SOT23, 3-Leads, Body 2.9x1.3 mm, Pitch 0.95 mm, IPC High Density)
footprint INF-SOT23_M (SOT23, 3-Leads, Body 2.9x1.3 mm, Pitch 0.95 mm, IPC Low Density)
pins: 1 B, 2 E, 3 C

## BFR181
designator Q?
NPN Silicon RF Transistor, 12 V VCEO, 20 mA IC, 18.5 dB Gmax, SOT23, Green; Manufacturer: Infineon; PartNumber: BFR181; Gmax (typ): 18.5 dB; Green: yes; Group: For low frequencies e.g. VHF/UHF; IC (max): 20 mA; NFmin (typ): 0.9 dB; Ptot (max): 175 mW; VCEO (max): 12 V; DatasheetVersion: Mar-2007; PackageReference: SOT23; PackageDescription: 3-Pin Small Outline Transistor Package, 1.3 x 2.9 mm Body, 0.95 mm Pitch; Supplier 1: Mouser; Supplier Part Number 1: N/A; Mounting Technology: Surface Mount; ComponentLink1Description: Manufacturer URL; ComponentLink1URL: http://www.infineon.com/; ComponentLink2Description: Datasheet; ComponentLink2URL: http://www.infineon.com/dgdl/bfr181.pdf?folderId=db3a30431400ef68011425b1354605c1&fileId=db3a30431400ef680114268848380638&location=en.Products.RF.RF_Transistors_.Low_Noise_Si_Transistors_up_to_2_5_GHz.DATASHEET.bfr181.pdf; ComponentLink3Description: Package Specification; ComponentLink3URL: http://www.infineon.com/dgdl/SOT23-Package_Overview.pdf?folderId=db3a30431936bc4b0119532290053c66&fileId=db3a30431936bc4b0119533468123c85
footprint INF-SOT23_N (SOT23, 3-Leads, Body 2.9x1.3 mm, Pitch 0.95 mm, IPC Medium Density)
footprint INF-SOT23_L (SOT23, 3-Leads, Body 2.9x1.3 mm, Pitch 0.95 mm, IPC High Density)
footprint INF-SOT23_M (SOT23, 3-Leads, Body 2.9x1.3 mm, Pitch 0.95 mm, IPC Low Density)
pins: 1 B, 2 E, 3 C

## BFR181W
designator Q?
NPN Silicon RF Transistor, 12 V VCEO, 20 mA IC, 19 dB Gmax, SOT323, Green; Manufacturer: Infineon; PartNumber: BFR181W; Gmax (typ): 19 dB; Green: yes; Group: For low frequencies e.g. VHF/UHF; IC (max): 20 mA; NFmin (typ): 0.9 dB; Ptot (max): 175mW; VCEO (max): 12 V; DatasheetVersion: Oct-2010; PackageReference: SOT323; PackageDescription: 3-Pin Small Outline Transistor Package, 1.25 x 2 mm Body, 0.65 mm Pitch; Supplier 1: Mouser; Supplier Part Number 1: N/A; Supplier 2: Farnell; Supplier Part Number 2: 1095662RL; Supplier 3: Farnell; Supplier Part Number 3: 1095662; Halogen-free: yes; Mounting Technology: Surface Mount; ComponentLink1Description: Manufacturer URL; ComponentLink1URL: http://www.infineon.com/; ComponentLink2Description: Datasheet; ComponentLink2URL: http://www.infineon.com/dgdl/bfr181w.pdf?folderId=db3a30431400ef68011425b1354605c1&fileId=db3a30431400ef680114268dc6c1063f&location=en.Products.RF.RF_Transistors_.Low_Noise_Si_Transistors_up_to_2_5_GHz.DATASHEET.bfr181w.pdf; ComponentLink3Description: Package Specification; ComponentLink3URL: http://www.infineon.com/dgdl/SOT323-Package_Overview.pdf?folderId=db3a30431936bc4b0119533e1dcb3c92&fileId=db3a30431936bc4b011953495f283cb1
footprint INF-SOT323_N (SOT23, 3-Leads, Body 2x1.25 mm, Pitch 0.65 mm, IPC Medium Density)
footprint INF-SOT323_L (SOT23, 3-Leads, Body 2x1.25 mm, Pitch 0.65 mm, IPC High Density)
footprint INF-SOT323_M (SOT23, 3-Leads, Body 2x1.25 mm, Pitch 0.65 mm, IPC Low Density)
pins: 1 B, 2 E, 3 C

## BFR182
designator Q?
NPN Silicon RF Transistor, 12 V VCEO, 35 mA IC, 18 dB Gmax, SOT23, Green; Manufacturer: Infineon; PartNumber: BFR182; Gmax (typ): 18 dB; Green: yes; Group: For low frequencies e.g. VHF/UHF; IC (max): 35 mA; NFmin (typ): 0.9 dB; Ptot (max): 250.0 mW; VCEO (max): 12 V; DatasheetVersion: Mar-2007; PackageReference: SOT23; PackageDescription: 3-Pin Small Outline Transistor Package, 1.3 x 2.9 mm Body, 0.95 mm Pitch; Supplier 1: Mouser; Supplier Part Number 1: N/A; Mounting Technology: Surface Mount; ComponentLink1Description: Manufacturer URL; ComponentLink1URL: http://www.infineon.com/; ComponentLink2Description: Datasheet; ComponentLink2URL: http://www.infineon.com/dgdl/bfr182.pdf?folderId=db3a30431400ef68011425b1354605c1&fileId=db3a30431400ef680114268f4d130640&location=en.Products.RF.RF_Transistors_.Low_Noise_Si_Transistors_up_to_2_5_GHz.DATASHEET.bfr182.pdf; ComponentLink3Description: Package Specification; ComponentLink3URL: http://www.infineon.com/dgdl/SOT23-Package_Overview.pdf?folderId=db3a30431936bc4b0119532290053c66&fileId=db3a30431936bc4b0119533468123c85
footprint INF-SOT23_N (SOT23, 3-Leads, Body 2.9x1.3 mm, Pitch 0.95 mm, IPC Medium Density)
footprint INF-SOT23_L (SOT23, 3-Leads, Body 2.9x1.3 mm, Pitch 0.95 mm, IPC High Density)
footprint INF-SOT23_M (SOT23, 3-Leads, Body 2.9x1.3 mm, Pitch 0.95 mm, IPC Low Density)
pins: 1 B, 2 E, 3 C

## BFR182W
designator Q?
NPN Silicon RF Transistor, 12 V VCEO, 35 mA IC, 19 dB Gmax, SOT323, Green; Manufacturer: Infineon; PartNumber: BFR182W; Gmax (typ): 19 dB; Green: yes; Group: For low frequencies e.g. VHF/UHF; IC (max): 35 mA; NFmin (typ): 0.9 dB; Ptot (max): 250mW; VCEO (max): 12 V; DatasheetVersion: Apr-2010; PackageReference: SOT323; PackageDescription: 3-Pin Small Outline Transistor Package, 1.25 x 2 mm Body, 0.65 mm Pitch; Supplier 1: Mouser; Supplier Part Number 1: N/A; Halogen-free: yes; Mounting Technology: Surface Mount; ComponentLink1Description: Manufacturer URL; ComponentLink1URL: http://www.infineon.com/; ComponentLink2Description: Datasheet; ComponentLink2URL: http://www.infineon.com/dgdl/bfr182w.pdf?folderId=db3a30431400ef68011425b1354605c1&fileId=db3a30431400ef680114269d1e43064c&location=en.Products.RF.RF_Transistors_.Low_Noise_Si_Transistors_up_to_2_5_GHz.DATASHEET.bfr182w.pdf; ComponentLink3Description: Package Specification; ComponentLink3URL: http://www.infineon.com/dgdl/SOT323-Package_Overview.pdf?folderId=db3a30431936bc4b0119533e1dcb3c92&fileId=db3a30431936bc4b011953495f283cb1
footprint INF-SOT323_N (SOT23, 3-Leads, Body 2x1.25 mm, Pitch 0.65 mm, IPC Medium Density)
footprint INF-SOT323_L (SOT23, 3-Leads, Body 2x1.25 mm, Pitch 0.65 mm, IPC High Density)
footprint INF-SOT323_M (SOT23, 3-Leads, Body 2x1.25 mm, Pitch 0.65 mm, IPC Low Density)
pins: 1 B, 2 E, 3 C

## BFR183
designator Q?
NPN Silicon RF Transistor, 12 V VCEO, 65 mA IC, 17.5 dB Gmax, SOT23, Green; Manufacturer: Infineon; PartNumber: BFR183; Gmax (typ): 17.5 dB; Green: yes; Group: For low frequencies e.g. VHF/UHF; IC (max): 65 mA; NFmin (typ): 0.9 dB; Ptot (max): 450mW; VCEO (max): 12 V; DatasheetVersion: Mar-2007; PackageReference: SOT23; PackageDescription: 3-Pin Small Outline Transistor Package, 1.3 x 2.9 mm Body, 0.95 mm Pitch; Supplier 1: Mouser; Supplier Part Number 1: N/A; Mounting Technology: Surface Mount; ComponentLink1Description: Manufacturer URL; ComponentLink1URL: http://www.infineon.com/; ComponentLink2Description: Datasheet; ComponentLink2URL: http://www.infineon.com/dgdl/bfr183.pdf?folderId=db3a30431400ef68011425b1354605c1&fileId=db3a30431400ef68011426a1b8f80656&location=en.Products.RF.RF_Transistors_.Low_Noise_Si_Transistors_up_to_2_5_GHz.DATASHEET.bfr183.pdf; ComponentLink3Description: Package Specification; ComponentLink3URL: http://www.infineon.com/dgdl/SOT23-Package_Overview.pdf?folderId=db3a30431936bc4b0119532290053c66&fileId=db3a30431936bc4b0119533468123c85
footprint INF-SOT23_N (SOT23, 3-Leads, Body 2.9x1.3 mm, Pitch 0.95 mm, IPC Medium Density)
footprint INF-SOT23_L (SOT23, 3-Leads, Body 2.9x1.3 mm, Pitch 0.95 mm, IPC High Density)
footprint INF-SOT23_M (SOT23, 3-Leads, Body 2.9x1.3 mm, Pitch 0.95 mm, IPC Low Density)
pins: 1 B, 2 E, 3 C

## BFR183W
designator Q?
NPN Silicon RF Transistor, 12 V VCEO, 65 mA IC, 18.5 dB Gmax, SOT323, Green; Manufacturer: Infineon; PartNumber: BFR183W; Gmax (typ): 18.5 dB; Green: yes; Group: For low frequencies e.g. VHF/UHF; IC (max): 65 mA; NFmin (typ): 0.9 dB; Ptot (max): 450 mW; VCEO (max): 12 V; DatasheetVersion: Mar-2007; PackageReference: SOT323; PackageDescription: 3-Pin Small Outline Transistor Package, 1.25 x 2 mm Body, 0.65 mm Pitch; Supplier 1: Mouser; Supplier Part Number 1: N/A; Supplier 2: Newark; Supplier Part Number 2: 89K9597; Supplier 3: Farnell; Supplier Part Number 3: 1095665RL; Supplier 4: Farnell; Supplier Part Number 4: 1095665; Halogen-free: yes; Mounting Technology: Surface Mount; ComponentLink1Description: Manufacturer URL; ComponentLink1URL: http://www.infineon.com/; ComponentLink2Description: Datasheet; ComponentLink2URL: http://www.infineon.com/dgdl/bfr183w.pdf?folderId=db3a30431400ef68011425b1354605c1&fileId=db3a30431400ef68011426a4b0210658&location=en.Products.RF.RF_Transistors_.Low_Noise_Si_Transistors_up_to_2_5_GHz.DATASHEET.bfr183w.pdf; ComponentLink3Description: Package Specification; ComponentLink3URL: http://www.infineon.com/dgdl/SOT323-Package_Overview.pdf?folderId=db3a30431936bc4b0119533e1dcb3c92&fileId=db3a30431936bc4b011953495f283cb1
footprint INF-SOT323_N (SOT23, 3-Leads, Body 2x1.25 mm, Pitch 0.65 mm, IPC Medium Density)
footprint INF-SOT323_L (SOT23, 3-Leads, Body 2x1.25 mm, Pitch 0.65 mm, IPC High Density)
footprint INF-SOT323_M (SOT23, 3-Leads, Body 2x1.25 mm, Pitch 0.65 mm, IPC Low Density)
pins: 1 B, 2 E, 3 C

## BFR193
designator Q?
NPN Silicon RF Transistor, 12 V VCEO, 80 mA IC, 15 dB Gmax, SOT23, Green; Manufacturer: Infineon; PartNumber: BFR193; Gmax (typ): 15 dB; Green: yes; Group: For low frequencies, e.g. VHF/UHF; IC (max): 80 mA; NFmin (typ): 1 dB; Ptot (max): 580.0 mW; VCEO (max): 12 V; DatasheetVersion: Aug-2012; PackageReference: SOT23; PackageDescription: 3-Pin Small Outline Transistor Package, 1.3 x 2.9 mm Body, 0.95 mm Pitch; Supplier 1: Mouser; Supplier Part Number 1: N/A; Mounting Technology: Surface Mount; ComponentLink1Description: Manufacturer URL; ComponentLink1URL: http://www.infineon.com/; ComponentLink2Description: Datasheet; ComponentLink2URL: http://www.infineon.com/dgdl/bfr193.pdf?folderId=db3a30431400ef68011425b1354605c1&fileId=db3a30431400ef68011426adab31066c&location=en.Products.RF.RF_Transistors_.High_Linearity_Si-_and_SiGe_C-Transistors_for_use_up_to_6_GHz.DATASHEET.bfr193.pdf; ComponentLink3Description: Package Specification; ComponentLink3URL: http://www.infineon.com/dgdl/SOT23-Package_Overview.pdf?folderId=db3a30431936bc4b0119532290053c66&fileId=db3a30431936bc4b0119533468123c85
footprint INF-SOT23_N (SOT23, 3-Leads, Body 2.9x1.3 mm, Pitch 0.95 mm, IPC Medium Density)
footprint INF-SOT23_L (SOT23, 3-Leads, Body 2.9x1.3 mm, Pitch 0.95 mm, IPC High Density)
footprint INF-SOT23_M (SOT23, 3-Leads, Body 2.9x1.3 mm, Pitch 0.95 mm, IPC Low Density)
pins: 1 B, 2 E, 3 C

## BFR193F
designator Q?
NPN Silicon RF Transistor, 12 V VCEO, 80 mA IC, 19 dB Gmax, TSFP-3-1, Green; Manufacturer: Infineon; PartNumber: BFR193F; Gmax (typ): 19 dB; Green: yes; Group: For low frequencies, e.g. VHF/UHF; IC (max): 80 mA; NFmin (typ): 1 dB; Ptot (max): 580mW; VCEO (max): 12 V; DatasheetVersion: Aug-2012; PackageReference: TSFP-3-1; PackageDescription: 3-Pin Thin Small Flat Package, 0.8 x 1.2 mm Body, 0.4 mm Pitch; Halogen-free: yes; Mounting Technology: Surface Mount; ComponentLink1Description: Manufacturer URL; ComponentLink1URL: http://www.infineon.com/; ComponentLink2Description: Datasheet; ComponentLink2URL: http://www.infineon.com/dgdl/bfr193f.pdf?folderId=db3a30431400ef68011425b2dfaf05c6&fileId=db3a30431441fb5d0114acfcde76152c&location=en.Products.RF.RF_Transistors_.High_Linearity_Si-_and_SiGe_C-Transistors_for_use_up_to_6_GHz.DATASHEET.bfr193f.pdf; ComponentLink3Description: Package Specification; ComponentLink3URL: http://www.infineon.com/dgdl/TSSFP-3-1-Package_Overview.pdf?folderId=db3a30431936bc4b011953c8310c373d&fileId=db3a30431936bc4b011953d3a42e3756
footprint INF-TSFP-3-1_N (SOT23, 3-Leads, Body 1.2x0.8 mm, Pitch 0.4 mm, IPC Medium Density)
footprint INF-TSFP-3-1_L (SOT23, 3-Leads, Body 1.2x0.8 mm, Pitch 0.4 mm, IPC High Density)
footprint INF-TSFP-3-1_M (SOT23, 3-Leads, Body 1.2x0.8 mm, Pitch 0.4 mm, IPC Low Density)
pins: 1 B, 2 E, 3 C

## BFR193L3
designator Q?
NPN Silicon RF Transistor, 12 V VCEO, 80 mA IC, 19 dB Gmax, TSLP-3-1, Green; Manufacturer: Infineon; PartNumber: BFR193L3; Gmax (typ): 19 dB; Green: yes; Group: For low frequencies, e.g. VHF/UHF; IC (max): 80 mA; NFmin (typ): 1 dB; Ptot (max): 580mW; VCEO (max): 12 V; DatasheetVersion: Aug-2012; PackageReference: TSLP-3-1; PackageDescription: 3-Pin Thin Small Leadless Package, 0.6 x 1 mm Body; Supplier 1: Mouser; Supplier Part Number 1: N/A; Halogen-free: yes; Mounting Technology: Surface Mount; ComponentLink1Description: Manufacturer URL; ComponentLink1URL: http://www.infineon.com/; ComponentLink2Description: Datasheet; ComponentLink2URL: http://www.infineon.com/dgdl/bfr193l3.pdf?folderId=db3a30431400ef68011425b2dfaf05c6&fileId=db3a30431400ef680114271fc1ec06db&location=en.Products.RF.RF_Transistors_.High_Linearity_Si-_and_SiGe_C-Transistors_for_use_up_to_6_GHz.DATASHEET.bfr193l3.pdf; ComponentLink3Description: Package Specification; ComponentLink3URL: http://www.infineon.com/dgdl/TSLP-3-1-Package_Overview.pdf?folderId=db3a30431936bc4b011957434db737d2&fileId=db3a30431936bc4b0119577ed2783818
footprint INF-TSLP-3-1_V (TSLP, 3-Leads, Body 0.6x1 mm)
pins: 1 B, 2 E, 3 C

## BFR193W
designator Q?
NPN Silicon RF Transistor, 12 V VCEO, 80 mA IC, 16 dB Gmax, SOT323, Green; Manufacturer: Infineon; PartNumber: BFR193W; Gmax (typ): 16 dB; Green: yes; Group: For low frequencies, e.g. VHF/UHF; IC (max): 80 mA; NFmin (typ): 1.3 dB; Ptot (max): 580mW; VCEO (max): 12 V; DatasheetVersion: Aug-2012; PackageReference: SOT323; PackageDescription: 3-Pin Small Outline Transistor Package, 1.25 x 2 mm Body, 0.65 mm Pitch; Supplier 1: Mouser; Supplier Part Number 1: N/A; Halogen-free: yes; Mounting Technology: Surface Mount; ComponentLink1Description: Manufacturer URL; ComponentLink1URL: http://www.infineon.com/; ComponentLink2Description: Datasheet; ComponentLink2URL: http://www.infineon.com/dgdl/bfr193w.pdf?folderId=db3a30431400ef68011425b1354605c1&fileId=db3a30431400ef68011426b3b6650674&location=en.Products.RF.RF_Transistors_.High_Linearity_Si-_and_SiGe_C-Transistors_for_use_up_to_6_GHz.DATASHEET.bfr193w.pdf; ComponentLink3Description: Package Specification; ComponentLink3URL: http://www.infineon.com/dgdl/SOT323-Package_Overview.pdf?folderId=db3a30431936bc4b0119533e1dcb3c92&fileId=db3a30431936bc4b011953495f283cb1
footprint INF-SOT323_N (SOT23, 3-Leads, Body 2x1.25 mm, Pitch 0.65 mm, IPC Medium Density)
footprint INF-SOT323_L (SOT23, 3-Leads, Body 2x1.25 mm, Pitch 0.65 mm, IPC High Density)
footprint INF-SOT323_M (SOT23, 3-Leads, Body 2x1.25 mm, Pitch 0.65 mm, IPC Low Density)
pins: 1 B, 2 E, 3 C

## BFR340F
designator Q?
NPN Silicon RF Transistor, TSFP-3-1, Reel, Green; Manufacturer: Infineon; PartNumber: BFR340F; Green: TRUE; VCEO (max): 6 V; PackageReference: TSFP-3-1; PackageDescription: 3-Pin Thin Small Flat Package, 0.8 x 1.2 mm Body, 0.4 mm Pitch; Supplier 1: Mouser; Supplier Part Number 1: N/A; Halogen-free: TRUE; Mounting Technology: Surface Mount; ComponentLink1Description: Manufacturer URL; ComponentLink1URL: http://www.infineon.com/; ComponentLink2Description: Datasheet; ComponentLink2URL: http://www.infineon.com/dgdl/bfr340f.pdf?folderId=db3a30431400ef68011425b1354605c1&fileId=db3a30431400ef68011426b5ce300676&location=en.Products.RF.RF_Transistors_.Low_Noise_Si_Transistors_up_to_2_5_GHz.DATASHEET.bfr340f.pdf; ComponentLink3Description: Package Specification; ComponentLink3URL: http://www.infineon.com/dgdl/TSFP-3-1%2C-2-Package_Overview.pdf?folderId=db3a30431936bc4b0119538cdcb03d2d&fileId=db3a30431936bc4b0119539929863d46
footprint INF-TSFP-3-1_N (SOT23, 3-Leads, Body 1.2x0.8 mm, Pitch 0.4 mm, IPC Medium Density)
footprint INF-TSFP-3-1_L (SOT23, 3-Leads, Body 1.2x0.8 mm, Pitch 0.4 mm, IPC High Density)
footprint INF-TSFP-3-1_M (SOT23, 3-Leads, Body 1.2x0.8 mm, Pitch 0.4 mm, IPC Low Density)
pins: 1 B, 2 E, 3 C

## BFR340L3
designator Q?
NPN Silicon RF Transistor, 6 V VCEO, 10 mA IC, 17.5 dB Gmax, TSLP-3-7, Green; Manufacturer: Infineon; PartNumber: BFR340L3; Gmax (typ): 17.5 dB; Green: yes; Group: High gain up to 2.5 GHz, flatlead TSFP package respectively TSLP package for modules; IC (max): 10 mA; NFmin (typ): 1.15 dB; Ptot (max): 60 mW; VCEO (max): 6 V; DatasheetVersion: Mar-2007; PackageReference: TSLP-3-7; PackageDescription: 3-Pin Thin Small Leadless Package, 0.6 x 1 mm Body; Supplier 1: Mouser; Supplier Part Number 1: N/A; Halogen-free: yes; Mounting Technology: Surface Mount; ComponentLink1Description: Manufacturer URL; ComponentLink1URL: http://www.infineon.com/; ComponentLink2Description: Datasheet; ComponentLink2URL: http://www.infineon.com/dgdl/bfr340l3.pdf?folderId=db3a30431400ef68011425b2dfaf05c6&fileId=db3a30431400ef6801142720ea0a06dc&location=en.Products.RF.RF_Transistors_.Low_Noise_Si_Transistors_up_to_2_5_GHz.DATASHEET.bfr340l3.pdf; ComponentLink3Description: Package Specification; ComponentLink3URL: http://www.infineon.com/dgdl/TSLP-3-7-Package_Overview.pdf?folderId=db3a304319bc939a0119be8b3e1f0050&fileId=db3a304319bc939a0119beaf025c006d
footprint INF-TSLP-3-7_V (TSLP, 3-Leads, Body 0.6x1 mm)
pins: 1 B, 2 E, 3 C

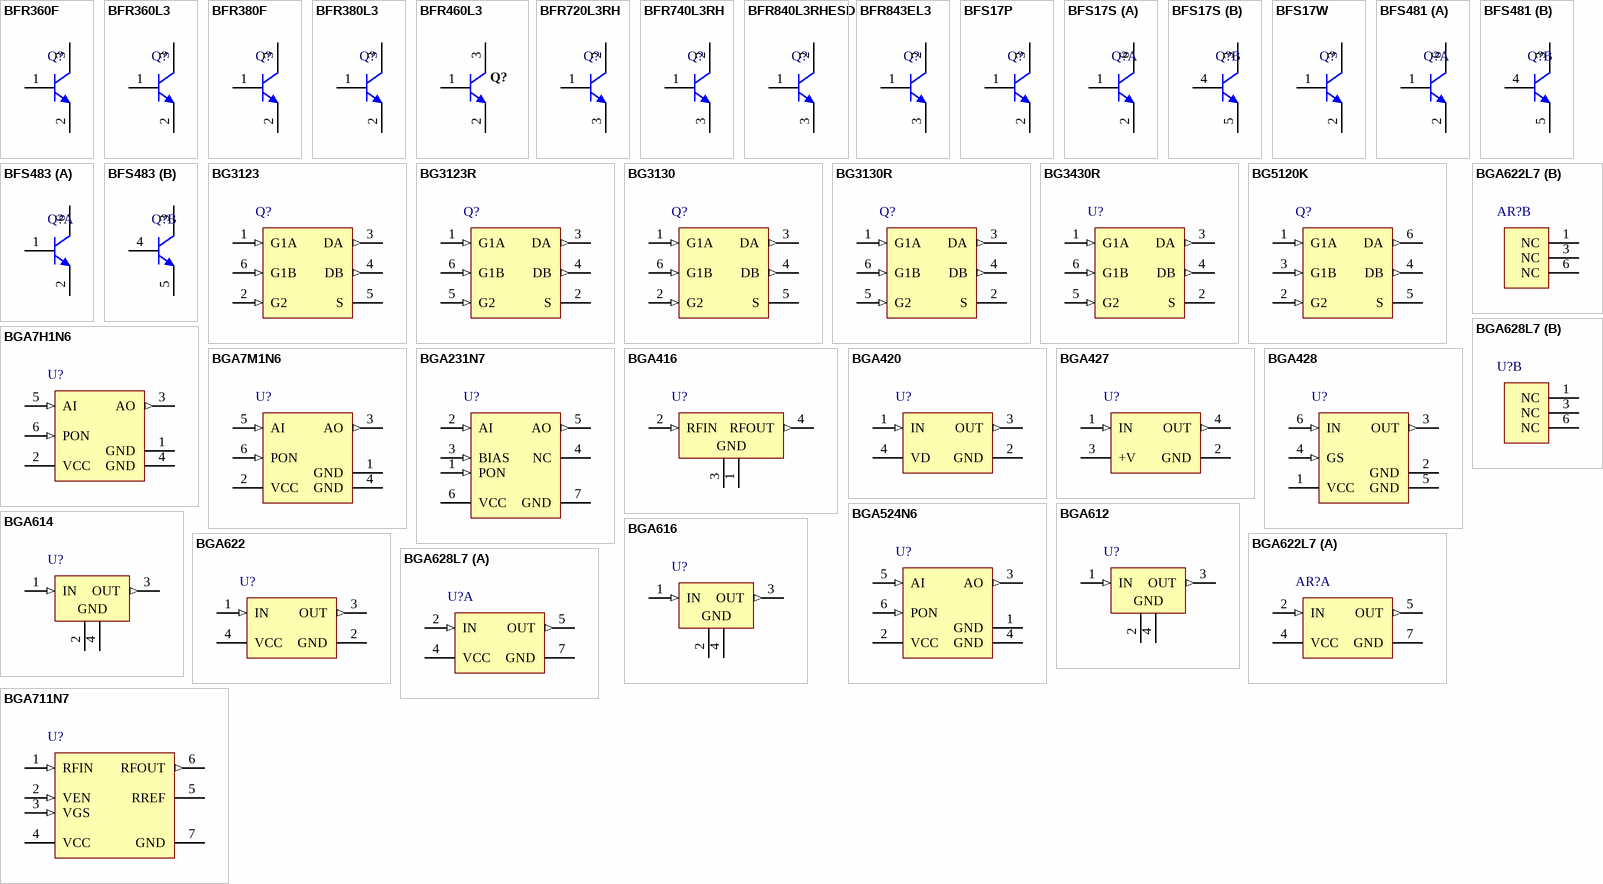
[diagram p5: symbols BFR360F to BGA711N7]